# Altium footprint library SparkFun-Connectors.PCBLIB: 379 footprints (part 1 of 24)
Each footprint in its own frame and in the unit in brackets; x right, y up, seen from the top. Pads: shape width x height; smd on the part's side, far side on the other; paste and mask are expansions set on the pad; w line width, h text height; cw(c..) or ccw(c..) is an arc to the next point about the centre after c.
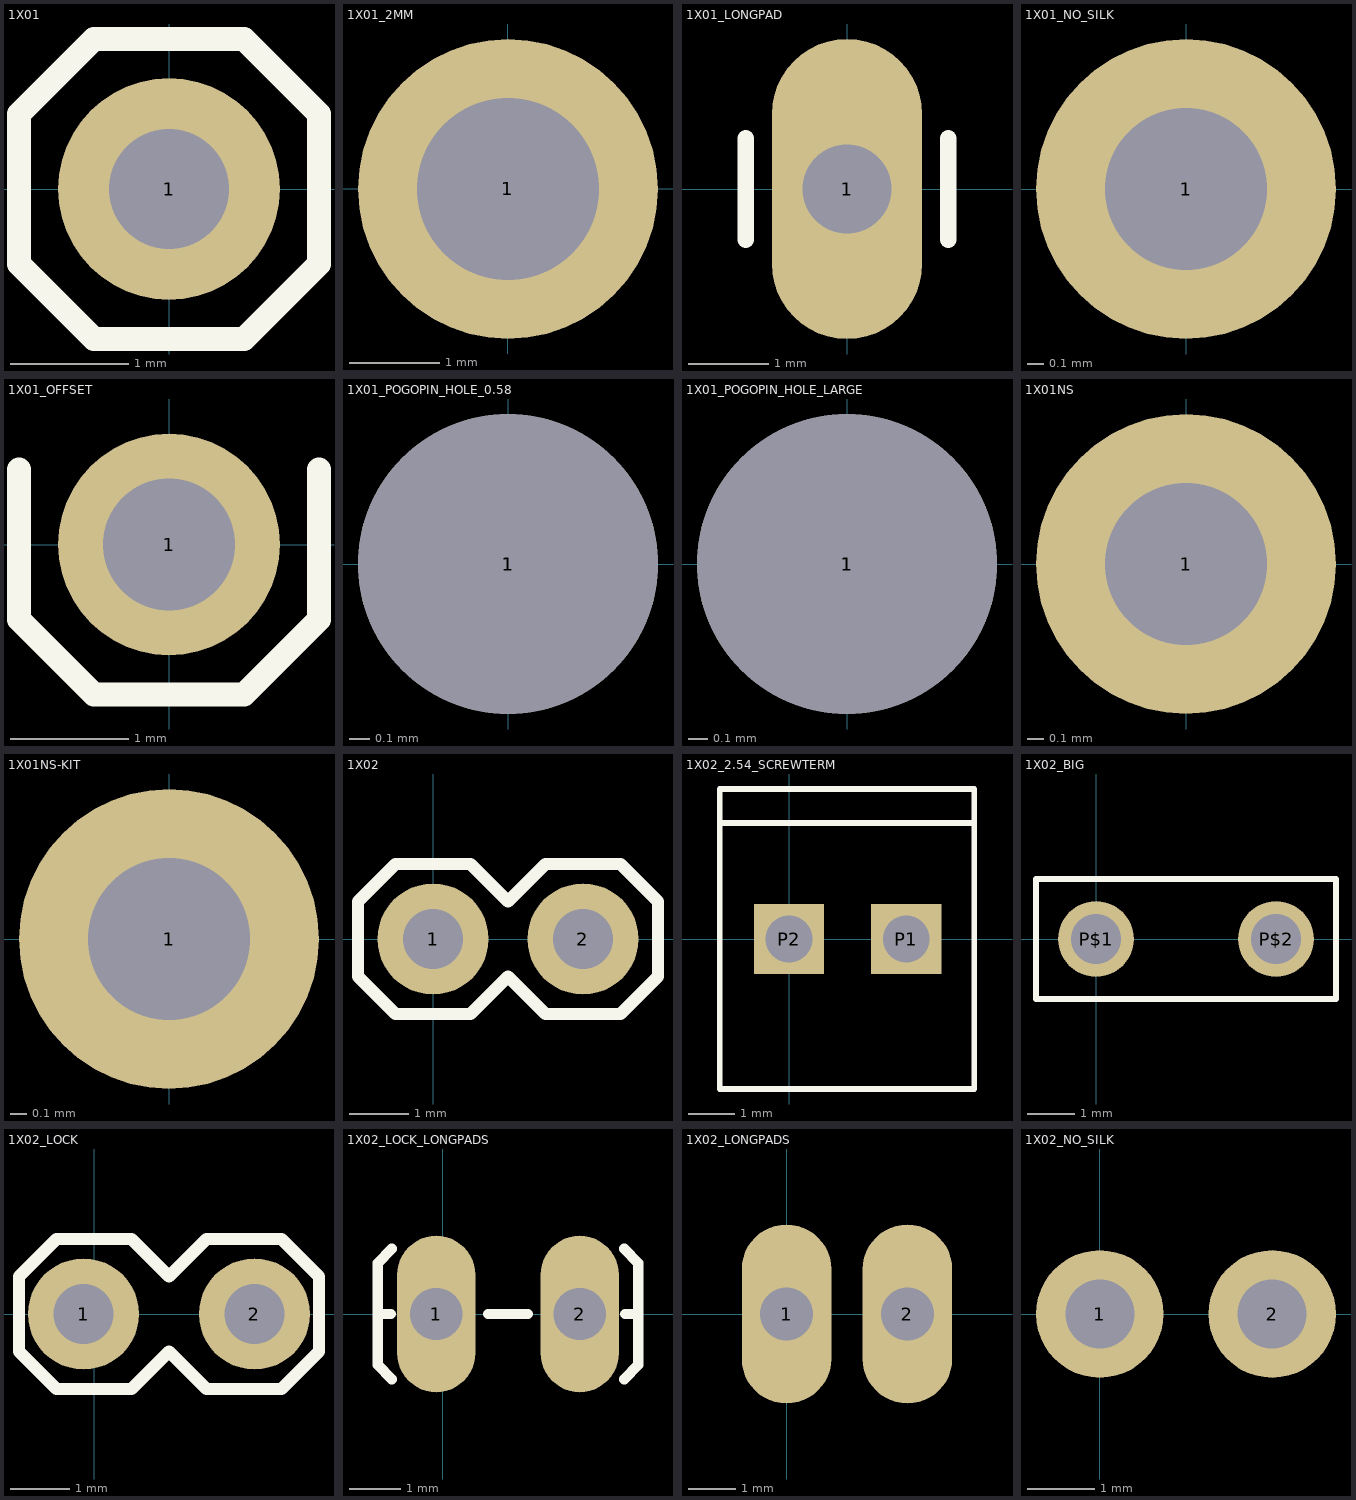
[diagram p0: the footprints below, top view; thin cyan lines are the x and y axes]

## 1X01 [mil]
pads (1):
  round 74 hole 40: 1(0,0)
Top Overlay:
  lines w8: -50,-25 -50,25 -25,50 25,50 50,25 50,-25 25,-50 -25,-50 -50,-25
Mechanical 2:
  text ">NAME" at 47,72 h77.5
Mechanical 4:
  text ">VALUE" at -50,-125 h77.5
Mechanical 16:
  rectangle: -10,-10 10,10

## 1X01_2MM [mil]
pads (1):
  round 130 hole 79: 1(0,0)
Mechanical 2:
  text ">NAME" at -53,72 h77.5
Mechanical 4:
  text ">VALUE" at -50,-125 h77.5

## 1X01_LONGPAD [mil]
pads (1):
  oval 74x148 hole 44: 1(0,0)
Top Overlay:
  lines w8: -50,-25 -50,25 ; 50,-25 50,25
Mechanical 2:
  text ">NAME" at -53,72 h77.5
Mechanical 4:
  text ">VALUE" at -50,-125 h77.5
Mechanical 16:
  rectangle: -10,-10 10,10

## 1X01_NO_SILK [mil]
pads (1):
  round 74 hole 40: 1(0,0)
Mechanical 2:
  text ">NAME" at 47,72 h77.5
Mechanical 4:
  text ">VALUE" at -50,-125 h77.5
Mechanical 16:
  rectangle: -10,-10 10,10

## 1X01_OFFSET [mil]
pads (1):
  round 74 hole 44: 1(0,0)
Top Overlay:
  lines w8: -50,25 -50,-25 -25,-50 25,-50 50,-25 50,25
Mechanical 2:
  text ">NAME" at 47,72 h77.5
Mechanical 4:
  text ">VALUE" at -50,-125 h77.5
Mechanical 16:
  rectangle: -10,-10 10,10

## 1X01_POGOPIN_HOLE_0.58 [mil]
pads (2):
  round 32 hole 36: 1(0,0)
  round 58 hole 58: 1(0,0)
Mechanical 16:
  circle w5: c0,0 r25

## 1X01_POGOPIN_HOLE_LARGE [mil]
pads (2):
  round 32 hole 36: 1(0,0)
  round 61 hole 61: 1(0,0)
Mechanical 16:
  circle w5: c0,0 r25

## 1X01NS [mil]
pads (1):
  round 74 hole 40: 1(0,0)

## 1X01NS-KIT [mil]
pads (1):
  round 74 hole 40: 1(0,0)
Top Solder:
  circle w0: c0,0 r20
Bottom Solder:
  circle w0: c0,0 r37

## 1X02 [mil]
pads (2):
  round 74 hole 40: 1(0,0) 2(100,0)
Top Overlay:
  lines w8: -50,-25 -50,25 -25,50 25,50 50,25 75,50 125,50 150,25 150,-25 125,-50 75,-50 50,-25 25,-50 -25,-50 -50,-25
Mechanical 2:
  text ">NAME" at -53,72 h77.5
Mechanical 4:
  text ">VALUE" at -50,-125 h77.5
Mechanical 16:
  rectangle: 90,-10 110,10
  rectangle: -10,-10 10,10

## 1X02_2.54_SCREWTERM [mil]
pads (2):
  rect 60x60 hole 40: P1(100,0) P2(0,0)
Top Overlay:
  lines w5: -59.06,99 -59.06,-127.95 158,-127.95 158,99 ; -59.06,99 -59.06,128 158,128 158,99 ; -59.06,99 158,99

## 1X02_BIG [mil]
pads (2):
  round 63 hole 42: P$1(0,0) P$2(150,0)
Top Overlay:
  lines w5: -50,-50 -50,50 200,50 200,-50 -50,-50

## 1X02_LOCK [mil]
pads (2):
  round 74 hole 40: 1(-7,0) 2(107,0)
Top Overlay:
  lines w8: -50,-25 -50,25 -25,50 25,50 50,25 75,50 125,50 150,25 150,-25 125,-50 75,-50 50,-25 25,-50 -25,-50 -50,-25
Mechanical 2:
  text ">NAME" at -53,72 h77.5
Mechanical 4:
  text ">VALUE" at -50,-125 h77.5
Mechanical 16:
  rectangle: -11.5,-11.5 12,12
  rectangle: 89,-11.5 112,12

## 1X02_LOCK_LONGPADS [mil]
pads (2):
  oval 60x120 hole 40: 1(-5,0) 2(105,0)
Top Overlay:
  lines w8: -40,0 -50,0 ; -39,-50 -50,-39 -50,0 ; -39,50 -50,39 -50,0 ; 35,0 65,0 ; 139,-50 150,-39 150,0 ; 139,50 150,39 150,0 ; 140,0 150,0
Mechanical 2:
  text ">NAME" at -50,70 h42.5
Mechanical 4:
  text ">VALUE" at -50,-130 h42.5
Mechanical 16:
  rectangle: -11.5,-11.5 12,12
  rectangle: 89,-11.5 112,12

## 1X02_LONGPADS [mil]
pads (2):
  oval 74x148 hole 44: 1(0,0) 2(100,0)

## 1X02_NO_SILK [mil]
pads (2):
  round 74 hole 40: 1(0,0) 2(100,0)
Mechanical 2:
  text ">NAME" at -53,72 h77.5
Mechanical 4:
  text ">VALUE" at -50,-125 h77.5
Mechanical 16:
  rectangle: 90,-10 110,10
  rectangle: -10,-10 10,10